# Altium schematic symbol library voice_launch.SchLib: 21 symbols
Pins are listed as number, name and electrical type; pins without a type are passive.

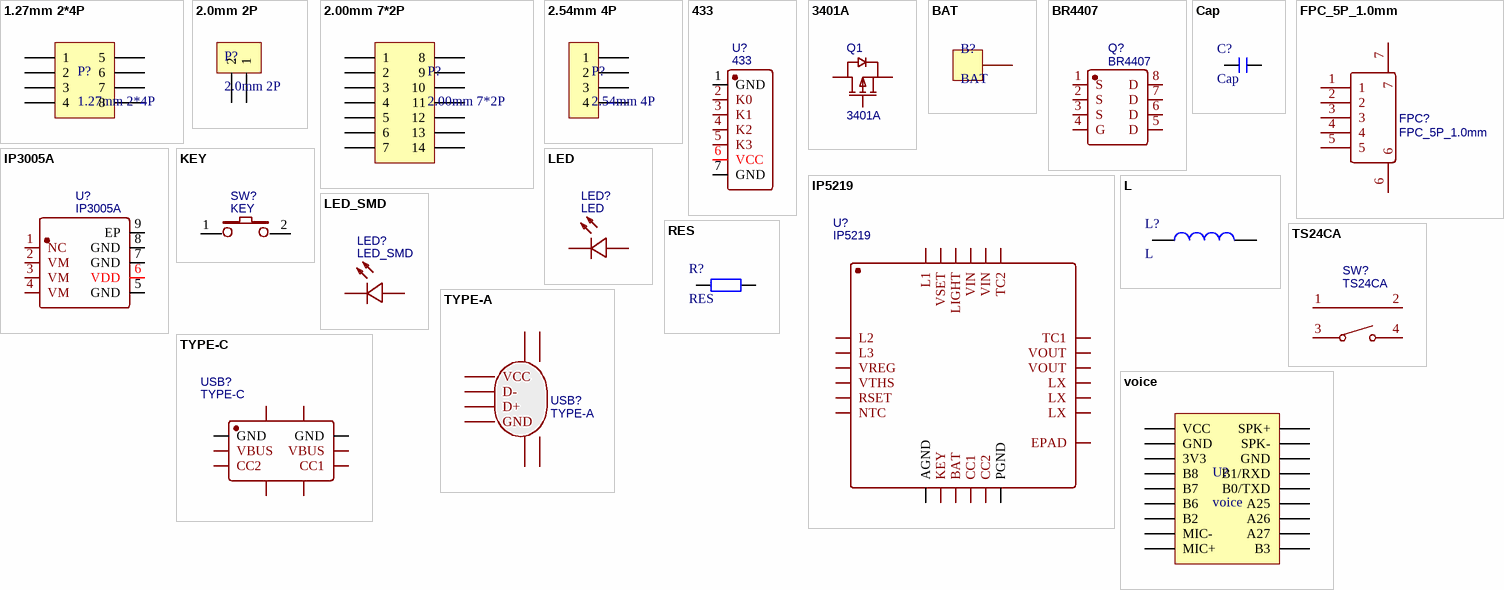
[diagram p0: symbols 1.27mm 2*4P to voice]

## 1.27mm 2*4P
designator P?
1.27mm端子
footprint 1.27mm 2*4p
pins: 1, 2, 3, 4, 5, 6, 7, 8

## 2.0mm 2P
designator P?
2.0mm 2p端子
footprint 2P-P2.00mm_PH (C2319)
pins: 1, 2

## 2.00mm 7*2P
designator P?
2.00mm 7*2P端子
footprint 2P-P2.00mm_PH (C2319)
footprint 2.54mm 4P (排针)
footprint 2.00mm 7*2P (2.00mm 7*2P 端口)
pins: 1, 2, 3, 4, 5, 6, 7, 8, 9, 10, 11, 12, 13, 14

## 2.54mm 4P
designator P?
2.54mm 4P排针
footprint 2P-P2.00mm_PH (C2319)
footprint 2.54mm 4P (排针)
pins: 1, 2, 3, 4

## 433
designator U?
灵-T3A_433; BOM_Manufacturer: 蜂鸟无线; Contributor: LCSC; BOM_Supplier: LCSC; BOM_Supplier Part: C2857838; BOM_Manufacturer Part: 灵-T3A_433; BOM_JLCPCB Part Class: Extended Part; spicePre: U; spiceSymbolName: 灵-T3A_433
footprint COMM-SMD_T3A_433
footprint launch
pins: 1 GND, 2 K0, 3 K1, 4 K2, 5 K3, 6 VCC, 7 GND

## 3401A
designator Q1
pmos; BOM_Manufacturer: Yangzhou Yangjie Elec Tech; BOM_Manufacturer Part: YJL3401A; Contributor: LCSC; BOM_Supplier: LCSC; BOM_Supplier Part: C393520; JLCPCB Part Class: Extended Part; BOM_JLCPCB Part Class: Extended Part; spicePre: Q; spiceSymbolName: YJL3401A
footprint SOT-23-3_L2.9-W1.3-P1.90-LS2.4-BR
footprint Pmos (C393520)
pins: 1 G, 2 S, 3 D

## BAT
designator B?
footprint BAT
pins: 1

## BR4407
designator Q?
C328572; BOM_Manufacturer: BLUE ROCKET; Contributor: LCSC; BOM_Supplier: LCSC; BOM_Supplier Part: C328572; BOM_Manufacturer Part: BR4407; BOM_JLCPCB Part Class: Extended Part; spicePre: Q; spiceSymbolName: BR4407
footprint SOP-8_L5.0-W4.0-P1.27-LS6.0-BL
footprint PMOS-SOP-8
pins: 1 S, 2 S, 3 S, 4 G, 5 D, 6 D, 7 D, 8 D

## Cap
designator C?
无极性贴片电容; 版权归属: 源创客; BOM名称: 无极性贴片电容; 学习资源: www.ooocke.com
footprint C 0201_L (无极性贴片电容)
footprint C 0402_L (无极性贴片电容)
footprint C 0603_L (无极性贴片电容)
footprint C 0805_L (无极性贴片电容)
footprint C 1206_L (无极性贴片电容)
footprint C 1210_L (无极性贴片电容)
footprint C 1808_L (无极性贴片电容)
footprint C 1812_L (无极性贴片电容)
footprint C 1825_L (无极性贴片电容)
footprint C 2225_L (无极性贴片电容)
footprint C 0201_M (无极性贴片电容)
footprint C 0402_M (无极性贴片电容)
footprint C 0603_M (无极性贴片电容)
footprint C 0805_M (无极性贴片电容)
footprint C 1206_M (无极性贴片电容)
footprint C 1210_M (无极性贴片电容)
footprint C 1808_M (无极性贴片电容)
footprint C 1812_M (无极性贴片电容)
footprint C 1825_M (无极性贴片电容)
footprint C 2225_M (无极性贴片电容)
footprint C0603
pins: 1, 2

## FPC_5P_1.0mm
designator FPC?
C262382; BOM_Manufacturer: JUSHUO; BOM_Manufacturer Part: AFA01-S05FCC-00; Contributor: LCSC; BOM_Supplier: LCSC; BOM_Supplier Part: C262382; BOM_JLCPCB Part Class: Extended Part; spicePre: F; spiceSymbolName: AFA01-S05FCC-00
footprint FPC-SMD_P1.00-5P_FGS-XJ-H2.0
pins: 1, 2, 3, 4, 5, 6, 7

## IP3005A
designator U?
BOM_Manufacturer: INJOINIC; Contributor: LCSC; BOM_Supplier: LCSC; BOM_Manufacturer Part: IP3005A; BOM_Supplier Part: C181685; BOM_JLCPCB Part Class: Extended Part; spicePre: U; spiceSymbolName: IP3005A
footprint ESOP-8_L4.9-W3.9-P1.27-LS6.0-BL-EP
footprint IP3005A
pins: 1 NC, 2 VM, 3 VM, 4 VM, 5 GND, 6 VDD, 7 GND, 8 GND, 9 EP

## IP5219
designator U?
充放电升压模块; BOM_Manufacturer: INJOINIC; Contributor: LCSC; BOM_Supplier: LCSC; BOM_Supplier Part: C181694; BOM_Manufacturer Part: IP5219; BOM_JLCPCB Part Class: Extended Part; spicePre: U; spiceSymbolName: IP5219
footprint QFN-24_L4.0-W4.0-P0.50-BL-EP2.6
footprint QFN-24
pins: 1 L2, 2 L3, 3 VREG, 4 VTHS, 5 RSET, 6 NTC, 7 AGND, 8 KEY, 9 BAT, 10 CC1, 11 CC2, 12 PGND, 13 LX, 14 LX, 15 LX, 16 VOUT, 17 VOUT, 18 TC1, 19 TC2, 20 VIN, 21 VIN, 22 LIGHT, 23 VSET, 24 L1, 25 EPAD

## KEY
designator SW?
BOM_Manufacturer: Korean Hroparts Elec; BOM_Manufacturer Part: K2-6639SP-V4SC-04; Contributor: LCSC; BOM_Supplier: LCSC; BOM_Supplier Part: C223741; BOM_JLCPCB Part Class: Extended Part; spicePre: S; spiceSymbolName: K2-6639SP-V4SC-04
footprint KEY-SMD_4P_K2-6639SP-R4SC-04
footprint KEY-SMD (C223741)
pins: 1, 2

## L
designator L?
小功率贴片电感; 版权归属: 源创客; BOM名称: 小功率贴片电感; 学习资源: www.ooocke.com
footprint L 0402 (小功率贴片电感)
footprint L 0603 (小功率贴片电感)
footprint L 0805 (小功率贴片电感)
footprint L 1206 (小功率贴片电感)
footprint L 1210 (小功率贴片电感)
footprint L 1806 (小功率贴片电感)
footprint L 1812 (小功率贴片电感)
footprint IND-SMD
pins: 1, 2

## LED
designator LED?
LED0603; BOM_Manufacturer: Foshan NationStar Optoelectronics; BOM_Manufacturer Part: FC-1608GHK-570A08; Contributor: LCSC; BOM_Supplier: LCSC; BOM_Supplier Part: C193901; BOM_JLCPCB Part Class: Extended Part; spicePre: L; spiceSymbolName: FC-1608GHK-570A08
footprint LED0603-R-RD
footprint LED0603
pins: 1 +, 2 -

## LED_SMD
designator LED?
BOM_Manufacturer: Foshan NationStar Optoelectronics; BOM_Manufacturer Part: FC-1608GHK-570A08; Contributor: LCSC; BOM_Supplier: LCSC; BOM_Supplier Part: C193901; BOM_JLCPCB Part Class: Extended Part; spicePre: L; spiceSymbolName: FC-1608GHK-570A08
footprint LED0603-R-RD
footprint LED-SMD (LED照明灯)
pins: 1 +, 2 -

## RES
designator R?
贴片电阻; 版权归属: 源创客; BOM名称: 贴片电阻; 学习资源: www.ooocke.com
footprint R 0201_L (1/20W贴片电阻)
footprint R 0402_L (1/16W贴片电阻)
footprint R 0603_L (1/10W贴片电阻)
footprint R 0805_L (1/8W贴片电阻)
footprint R 1206_L (1/4W贴片电阻)
footprint R 1210_L (1/3W贴片电阻)
footprint R 1812_L (1/2W贴片电阻)
footprint R 2010_L (3/4W贴片电阻)
footprint R 2512_L (1W贴片电阻)
footprint R 0201_M (1/20W贴片电阻)
footprint R 0402_M (1/16W贴片电阻)
footprint R 0603_M (1/10W贴片电阻)
footprint R 0805_M (1/8W贴片电阻)
footprint R 1206_M (1/4W贴片电阻)
footprint R 1210_M (1/3W贴片电阻)
footprint R 1812_M (1/2W贴片电阻)
footprint R 2010_M (3/4W贴片电阻)
footprint R 2512_M (1W贴片电阻)
footprint R0603
pins: 1, 2

## TS24CA
designator SW?
侧面按钮C393942; BOM_Manufacturer: SHOU HAN; Contributor: LCSC; BOM_Supplier: LCSC; BOM_Supplier Part: C393942; BOM_Manufacturer Part: TS24CA; BOM_JLCPCB Part Class: Extended Part; spicePre: S; spiceSymbolName: TS24CA
footprint SW-SMD_TS24CA
pins: 1, 2, 3, 4

## TYPE-A
designator USB?
BOM_Manufacturer: ValuePro; BOM_Manufacturer Part: A/FPaste board Dparagraph10Four feet without curling ironLCPVinyl6.8Reverse; BOM_Supplier: LCSC; BOM_Supplier Part: C42474; BOM_JLCPCB Part Class: Extended Part; spicePre: U; spiceSymbolName: A/FPaste board Dparagraph10Four feet without curling ironLCPVinyl6.8Reverse
footprint USB-A-SMD_USB-M-21
footprint USB-A
pins: 1 VCC, 2 D-, 3 D+, 4 GND, 5, 6 1, 7 2, 8 3

## TYPE-C
designator USB?
TYPE-C / |C2764612; BOM_Manufacturer: XKB Connectivity(中国星坤); BOM_Manufacturer Part: U262-061N-4BVC11; Contributor: LCSC; BOM_Supplier: LCSC; BOM_Supplier Part: C2764612; spicePre: U; spiceSymbolName: U262-061N-4BVC11
footprint USB-SMD_U262-061N-4BVC11
footprint TYPE-C
pins: 7, 8, 9, 10, A5 CC1, A9 VBUS, A12 GND, B5 CC2, B9 VBUS, B12 GND

## voice
designator U?
语音模块
footprint VOICE (语音模块)
footprint VOICE (语音模块)
pins: 1 VCC, 2 GND, 3 3V3, 4 B8, 5 B7, 6 B6, 7 B2, 8 MIC-, 9 MIC+, 10 SPK+, 11 SPK-, 12 GND, 13 B1/RXD, 14 B0/TXD, 15 A25, 16 A26, 17 A27, 18 B3